# EAGLE library part ADM695 (library casovac)
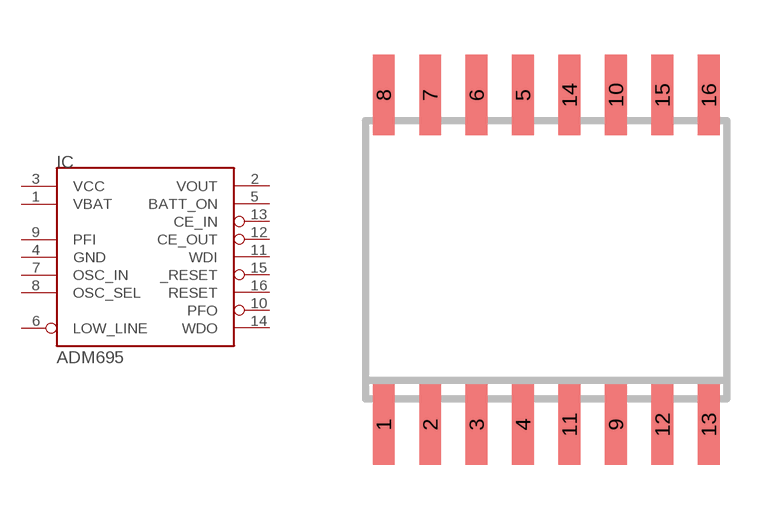
[diagram p8: symbol with the pads of SOIC16; footprint SOIC16]

Designator prefix IC

## ADM695  [SOIC16]
1  VBAT
2  VOUT
3  VCC
4  GND
5  BATT_ON
6  LOW_LINE
7  OSC_IN
8  OSC_SEL
9  PFI
10  PFO
11  WDI
12  CE_OUT
13  CE_IN
14  WDO
15  _RESET
16  RESET

## Footprint SOIC16 (pad centres in mm)
16-Lead SOIC (R-16)
smd 0.6 x 2.2: 1 -4.445,-3.87; 2 -3.175,-3.87; 3 -1.905,-3.87; 4 -0.635,-3.87; 5 -0.635,5.14; 6 -1.905,5.14; 7 -3.175,5.14; 8 -4.445,5.14; 9 1.905,-3.87; 10 1.905,5.14; 11 0.635,-3.87; 12 3.175,-3.87; 13 4.445,-3.87; 14 0.635,5.14; 15 3.175,5.14; 16 4.445,5.14